# Altium schematic symbol library XB24.SchLib: 1 symbol
Pins are listed as number, name and electrical type; pins without a type are passive.

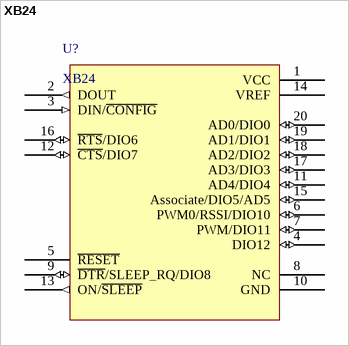
[diagram p0: symbol XB24]

## XB24
designator U?
pins: 1 VCC (power), 2 DOUT (out), 3 DIN/~{CONFIG} (in), 4 DIO12 (io), 5 ~{RESET} (power), 6 PWM0/RSSI/DIO10 (io), 7 PWM/DIO11 (io), 8 NC, 9 ~{DTR}/SLEEP_RQ/DIO8 (io), 10 GND (power), 11 AD4/DIO4 (io), 12 ~{CTS}/DIO7 (io), 13 ON/~{SLEEP} (out), 14 VREF (power), 15 Associate/DIO5/AD5 (io), 16 ~{RTS}/DIO6 (io), 17 AD3/DIO3 (io), 18 AD2/DIO2 (io), 19 AD1/DIO1 (io), 20 AD0/DIO0 (io)